# EAGLE library part 1734035-3 (library Logicar Rev 2 Lib)
Conn Mini USB 2.0 Type B RCP 5 POS 0.8mm Solder RA SMD 5 Terminal 1 Port T/R
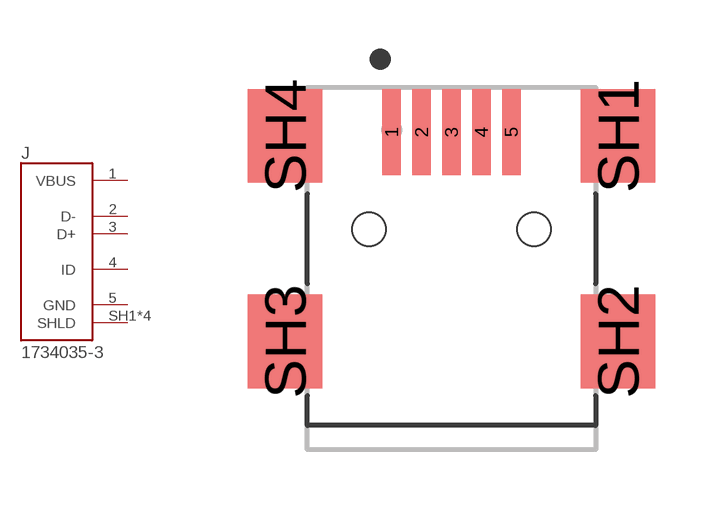
[diagram p1: symbol with the pads of TE_1734035-3; footprint TE_1734035-3]

Designator prefix J

## 1734035-3 (COMMENT: 1734035-3; DESCRIPTION: Conn Mini USB 2.0 Type B RCP 5 POS 0.8mm Solder RA SMD 5 Terminal 1 Port T/R; DIGI-KEY_PART_NUMBER: A121553CT-ND; DIGI-KEY_PURCHASE_URL: https://www.digikey.com/product-detail/en/te-connectivity-amp-connectors/1734035-3/A121553CT-ND/5246532?utm_source=snapeda&utm_medium=aggregator&utm_campaign=symbol; EU_ROHS_COMPLIANCE: Compliant; MF: TE Connectivity; MP: 1734035-3; PACKAGE: None; TE_PURCHASE_URL: https://www.te.com/usa-en/product-1734035-3.html?te_bu=Cor&te_type=disp&te_campaign=seda_glo_cor-seda-global-disp-prtnr-fy19-seda-model-bom-cta_sma-317_1&elqCampaignId=32493)  [TE_1734035-3]
1  VBUS  pas
2  D-  pas
3  D+  pas
4  ID  pas
5  GND  pas
SH1  SHLD  pas
SH2  SHLD  pas
SH3  SHLD  pas
SH4  SHLD  pas

## Footprint TE_1734035-3 (pad centres in mm)
smd 0.5 x 2.3: 1 -1.6,3.65; 2 -0.8,3.65; 3 0,3.65; 4 0.8,3.65; 5 1.6,3.65
smd 2 x 2.5: SH1 4.45,3.55; SH2 4.45,-1.95; SH3 -4.45,-1.95; SH4 -4.45,3.55
hole 0.9 at -2.2,1.05
hole 0.9 at 2.2,1.05